# EAGLE library part 24LCXX (library MAX9812)
Serial I2C bus eeprom
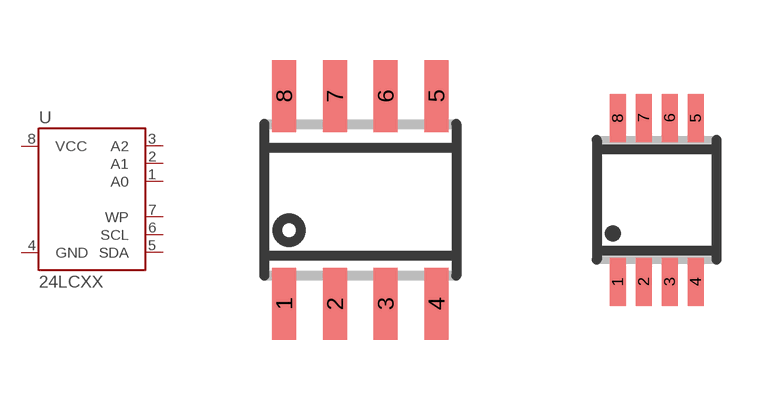
[diagram p84: symbol with the pads of SOIC8; footprints SOIC8, MSOP8]

Designator prefix U

## 24LCXX  [SOIC8]
1  A0  in
2  A1  in
3  A2  in
4  GND  pwr
5  SDA
6  SCL
7  WP  in
8  VCC  pwr

## 24LCXXM  [MSOP8]
Pads as for SOIC8

## Footprint SOIC8 (pad centres in mm)
Small Outline IC
smd 0.6 x 1.8: 1 -1.905,-2.6; 2 -0.635,-2.6; 3 0.635,-2.6; 4 1.905,-2.6; 5 1.905,2.6; 6 0.635,2.6; 7 -0.635,2.6; 8 -1.905,2.6

## Footprint MSOP8 (pad centres in mm)
MSOP8
smd 0.4 x 1.2: 1 -0.975,-2.05; 2 -0.325,-2.05; 3 0.325,-2.05; 4 0.975,-2.05; 5 0.975,2.05; 6 0.325,2.05; 7 -0.325,2.05; 8 -0.975,2.05